# EAGLE library part USB4060-30-A (library USB4060-30-A-GCT)
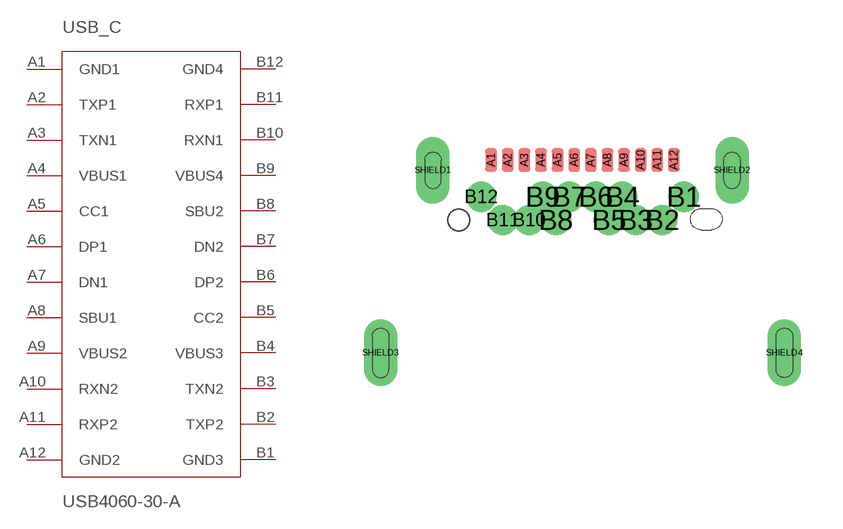
[diagram p0: symbol with the pads of USB_C; footprint USB_C]

Designator prefix USB_C

## USB4060-30-A  [USB_C]
A1  GND1  pwr
A2  TXP1
A3  TXN1
A4  VBUS1  pas
A5  CC1  pas
A6  DP1
A7  DN1
A8  SBU1
A9  VBUS2  pas
A10  RXN2
A11  RXP2
A12  GND2  pwr
B1  GND3  pwr
B2  TXP2
B3  TXN2
B4  VBUS3  pas
B5  CC2  pas
B6  DP2
B7  DN2
B8  SBU2
B9  VBUS4  pas
B10  RXN1
B11  RXP1
B12  GND4  pwr

## Footprint USB_C (pad centres in mm)
smd 0.35 x 0.7: A1 -2.749,1.11; A2 -2.249,1.11; A3 -1.749,1.11; A4 -1.249,1.11; A5 -0.749,1.11; A6 -0.249,1.11; A7 0.251,1.11; A8 0.751,1.11; A9 1.251,1.11; A10 1.751,1.11; A11 2.251,1.11; A12 2.751,1.11
drill 0.4 pad 0.65: B1 3.05,0; B2 2.4,-0.7; B3 1.6,-0.7; B4 1.2,0; B5 0.8,-0.7; B6 0.4,0; B7 -0.4,0; B8 -0.8,-0.7; B9 -1.2,0; B10 -1.6,-0.7; B11 -2.4,-0.7; B12 -3.05,0
drill 0.5 pad 1 long: SHIELD1 -4.5,0.8; SHIELD2 4.5,0.8; SHIELD3 -6.075,-4.7; SHIELD4 6.075,-4.7
hole 0.65 at -3.725,-0.7